# EAGLE library part GND8 (library macros)
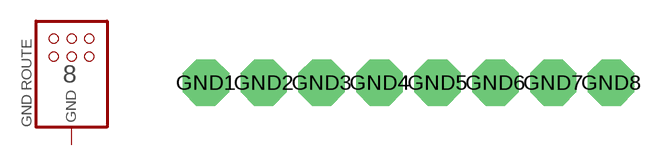
[diagram p12: symbol with the pads of GND8; footprint GND8]

Designator prefix $

## GND8  [GND8]
GND1  GND  pwr
GND2  GND  pwr
GND3  GND  pwr
GND4  GND  pwr
GND5  GND  pwr
GND6  GND  pwr
GND7  GND  pwr
GND8  GND  pwr

## Footprint GND8 (pad centres in mm)
drill 0.813 pad 2.032 octagon: GND1 0,0; GND2 2.54,0; GND3 5.08,0; GND4 7.62,0; GND5 10.16,0; GND6 12.7,0; GND7 15.24,0; GND8 17.78,0